# Altium schematic symbol library Intergrated circuit.SchLib: 5 symbols
Pins are listed as number, name and electrical type; pins without a type are passive.

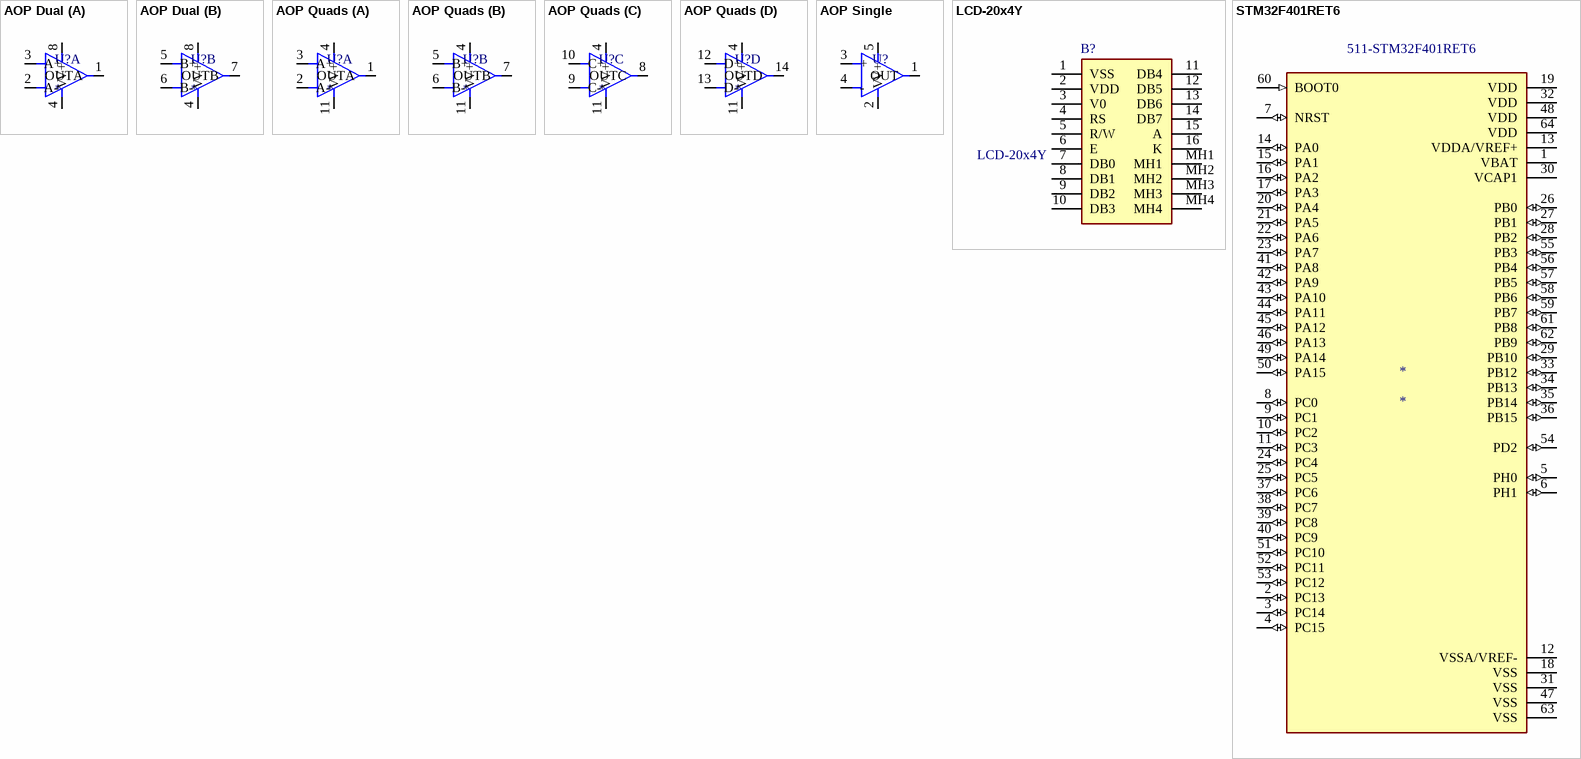
[diagram p0: symbols AOP Dual to STM32F401RET6]

## AOP Dual
designator U?
footprint SOIC-8 IPC-C
footprint MSOP-8 IPC-C
footprint MSOP-8 IPC-B
footprint MSOP-8 IPC-A
footprint SOIC-8 IPC-B
footprint SOIC-8 IPC-A
part A pins: 1 OUTA, 2 A-, 3 A+, 4 V-, 8 V+
part B pins: 4 V-, 5 B+, 6 B-, 7 OUTB, 8 V+

## AOP Quads
designator U?
footprint SOIC-14 IPC-C
footprint SOIC-14 IPC-B
footprint SOIC-14 IPC-A
part A pins: 1 OUTA, 2 A-, 3 A+, 4 V+, 11 V-
part B pins: 4 V+, 5 B+, 6 B-, 7 OUTB, 11 V-
part C pins: 4 V+, 8 OUTC, 9 C-, 10 C+, 11 V-
part D pins: 4 V+, 11 V-, 12 D+, 13 D-, 14 OUTD

## AOP Single
designator U?  (value not drawn)
pins: 1 OUT, 2 V-, 3 +, 4 -, 5 V+

## LCD-20x4Y
designator B?
LCD Character Display Modules & Accessories 20X4 CHARCTR YW/GRN LCD W/BACKLIGHT; Manufacturer_Name: Gravitech; Geometry.Height: 14mm; Mouser Part Number: 992-LCD-20X4Y; Mouser Price/Stock: https://www.mouser.co.uk/ProductDetail/Gravitech/LCD-20x4Y?qs=Vxac6xGyzPnjZjlBU%2FMUhQ%3D%3D; Manufacturer_Part_Number: LCD-20x4Y; Datasheet Link: https://componentsearchengine.com/Datasheets/1/LCD-20x4Y.pdf
footprint LCD20x4Y
pins: 1 VSS, 2 VDD, 3 V0, 4 RS, 5 R/W, 6 E, 7 DB0, 8 DB1, 9 DB2, 10 DB3, 11 DB4, 12 DB5, 13 DB6, 14 DB7, 15 A, 16 K, MH1, MH2, MH3, MH4

## STM32F401RET6
designator *  Supplier Part Number 1: 511-STM32F401RET6
MCU 32-bit STM32 ARM Cortex M4 RISC 512KB Flash 1.8V/2.5V/3.3V 64-Pin LQFP Tray; Manufacturer: STMicroelectronics; Manufacturer Part Number: STM32F401RET6; Min Supply Voltage: 1.7V; Max Supply Voltage: 3.6V; RAM Size: 96KB; Max Power Dissipation: 313mW; Interface: I2C,SPI,USB,IrDA,SDIO,UART,USART,LIN,I2S; Number of I/Os: 50; Number of Timers/Counters: 8; Frequency: 84MHz; Oscillator Type: Internal; Data Bus Width: 32b; Watchdog Timer: Yes; Peripherals: Brown-out Detect/Reset,POR,PWM,WDT,DMA; Operating Supply Voltage: 3.3V; Supplier 1: Mouser; RoHS: Yes; Category: Microcontrollers; Stock 1: 16319; Pricing 1: 1=7.97, 10=7.21, 50=6.87, 100=5.97, 1000=4.78, 10000=4.78 (USD); Case/Package: LQFP; Number of Pins: 64; Weight: 0.012088oz; Min Operating Temperature: -40°C; Max Operating Temperature: 85°C; Packaging: Tray; Number of Programmable I/O: 50; Max Frequency: 84MHz; Memory Type: FLASH; Memory Size: 512KB; Package Quantity: 960; Core Architecture: ARM; Series: STM32 F4; Radiation Hardening: No; Reach SVHC Compliant: No; Lead Free: Lead Free; RoHS Compliant: Yes; ComponentLink1URL: http://www.farnell.com/datasheets/1899788.pdf?src-supplier=Farnell; ComponentLink1Description: http://www.farnell.com/datasheets/1899788.pdf?src-supplier=Farnell; ComponentLink2URL: http://www.mouser.com/ds/2/389/stm32f401re-956236.pdf?src-supplier=Mouser; ComponentLink2Description: http://www.mouser.com/ds/2/389/stm32f401re-956236.pdf?src-supplier=Mouser; ComponentLink3URL: http://www.farnell.com/datasheets/1899788.pdf?src-supplier=Element14; ComponentLink3Description: http://www.farnell.com/datasheets/1899788.pdf?src-supplier=Element14; ComponentLink4URL: https://datasheet.octopart.com/STM32F401RET6-STMicroelectronics-datasheet-22122550.pdf?src-supplier=Future+Electronics; ComponentLink4Description: https://datasheet.octopart.com/STM32F401RET6-STMicroelectronics-datasheet-22122550.pdf?src-supplier=Future+Electronics; ComponentLink5URL: http://www.st.com/content/ccc/resource/technical/document/errata_sheet/df/f5/fd/26/37/db/42/2b/DM00095523.pdf/files/DM00095523.pdf/jcr:content/translations/en.DM00095523.pdf?src-supplier=Digi-Key; ComponentLink5Description: http://www.st.com/content/ccc/resource/technical/document/errata_sheet/df/f5/fd/26/37/db/42/2b/DM00095523.pdf/files/DM00095523.pdf/jcr:content/translations/en.DM00095523.pdf?src-supplier=Digi-Key; ComponentLink6URL: http://www.farnell.com/datasheets/1899788.pdf?src-supplier=Newark; ComponentLink6Description: http://www.farnell.com/datasheets/1899788.pdf?src-supplier=Newark; ComponentLink7URL: http://www.st.com/st-web-ui/static/active/en/resource/technical/document/datasheet/DM00102166.pdf?src-supplier=Avnet; ComponentLink7Description: http://www.st.com/st-web-ui/static/active/en/resource/technical/document/datasheet/DM00102166.pdf?src-supplier=Avnet; ComponentLink8URL: https://datasheet.octopart.com/STM32F401RET6-STMicroelectronics-datasheet-38726989.pdf?src-supplier=SHENGYU+ELECTRONICS; ComponentLink8Description: https://datasheet.octopart.com/STM32F401RET6-STMicroelectronics-datasheet-38726989.pdf?src-supplier=SHENGYU+ELECTRONICS
footprint STM32F401RET6
pins: 1 VBAT (power), 2 PC13 (io), 3 PC14 (io), 4 PC15 (io), 5 PH0 (io), 6 PH1 (io), 7 NRST (io), 8 PC0 (io), 9 PC1 (io), 10 PC2 (io), 11 PC3 (io), 12 VSSA/VREF- (power), 13 VDDA/VREF+ (power), 14 PA0 (io), 15 PA1 (io), 16 PA2 (io), 17 PA3 (io), 18 VSS (power), 19 VDD (power), 20 PA4 (io), 21 PA5 (io), 22 PA6 (io), 23 PA7 (io), 24 PC4 (io), 25 PC5 (io), 26 PB0 (io), 27 PB1 (io), 28 PB2 (io), 29 PB10 (io), 30 VCAP1 (power), 31 VSS (power), 32 VDD (power), 33 PB12 (io), 34 PB13 (io), 35 PB14 (io), 36 PB15 (io), 37 PC6 (io), 38 PC7 (io), 39 PC8 (io), 40 PC9 (io), 41 PA8 (io), 42 PA9 (io), 43 PA10 (io), 44 PA11 (io), 45 PA12 (io), 46 PA13 (io), 47 VSS (power), 48 VDD (power), 49 PA14 (io), 50 PA15 (io), 51 PC10 (io), 52 PC11 (io), 53 PC12 (io), 54 PD2 (io), 55 PB3 (io), 56 PB4 (io), 57 PB5 (io), 58 PB6 (io), 59 PB7 (io), 60 BOOT0 (in), 61 PB8 (io), 62 PB9 (io), 63 VSS (power), 64 VDD (power)